# Altium schematic symbol library TL431_SOT23-3.SchLib: 1 symbol
Pins are listed as number, name and electrical type; pins without a type are passive.

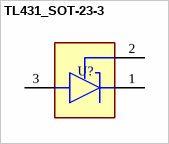
[diagram p0: symbol TL431_SOT-23-3]

## TL431_SOT-23-3
designator U?, comment TL431  (value not drawn)
TL431_SOT-23-3
footprint TL431_SOT-23-3(A)
footprint TL431_SOT-23-3(B)
footprint TL431_SOT-23-3(C)
footprint TL431_SOT-23-3(MGF)
pins: 1 C, 2 REF, 3 A